# Altium schematic symbol library 81402A.SchLib: 33 symbols
Pins are listed as number, name and electrical type; pins without a type are passive.

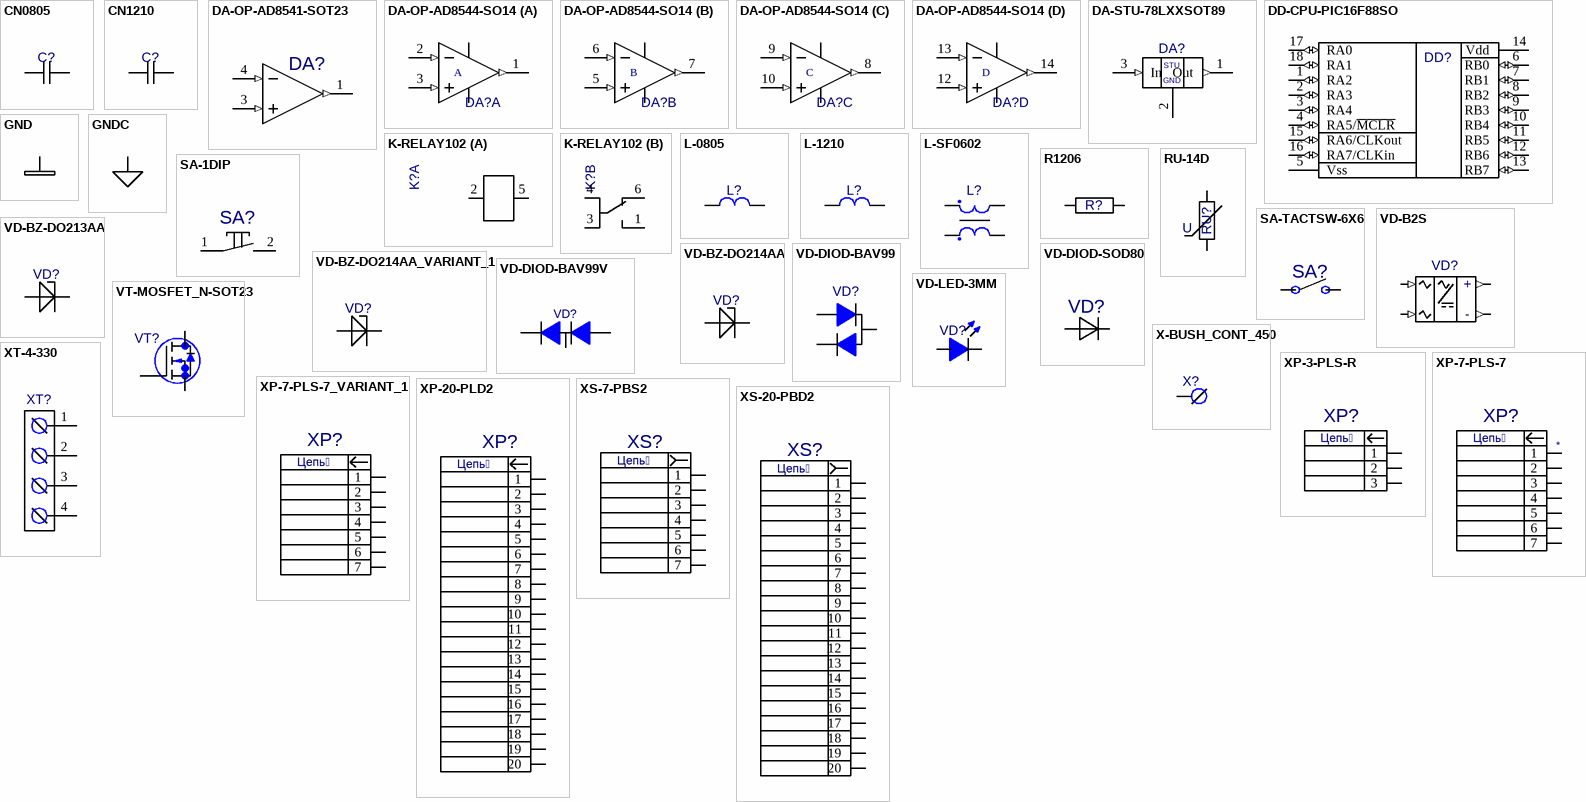
[diagram p0: symbols CN0805 to XT-4-330]

## CN0805
designator C?  (value not drawn)
Value: *
footprint 0805
pins: 1, 2

## CN1210
designator C?  (value not drawn)
Value: *
footprint 1210
pins: 1, 2

## DA-OP-AD8541-SOT23
designator DA?  (value not drawn)
Value: *
footprint SOT23-(5)
pins: 1 out (out), 2 V- (power) hidden, 3 +in (in), 4 -in (in), 5 V+ (power) hidden

## DA-OP-AD8544-SO14
designator DA?  (value not drawn)
Value: *
footprint SO-G14
pins on every part: 4 V+ (power) hidden, 11 V- (power) hidden
part A pins: 1 OUT (out), 2 IN- (in), 3 IN+ (in)
part B pins: 5 IN+ (in), 6 IN- (in), 7 OUT (out)
part C pins: 8 OUT (out), 9 IN- (in), 10 IN+ (in)
part D pins: 12 IN+ (in), 13 IN- (in), 14 OUT (out)
part A text: A
part B text: B
part C text: C
part D text: D

## DA-STU-78LXXSOT89
designator DA?  (value not drawn)
Value: *
footprint SOT89M
pins: 1 Out (out), 2 GND, 3 In (in), 4 GND
text: STU

## DD-CPU-PIC16F88SO
designator DD?  (value not drawn)
Value: *
footprint SO18W
pins: 1 RA2 (io), 2 RA3 (io), 3 RA4 (io), 4 RA5/~{MCLR} (io), 5 Vss (power), 6 RB0 (io), 7 RB1 (io), 8 RB2 (io), 9 RB3 (io), 10 RB4 (io), 11 RB5 (io), 12 RB6 (io), 13 RB7 (io), 14 Vdd (power), 15 RA6/CLKout (io), 16 RA7/CLKin (io), 17 RA0 (io), 18 RA1 (io)

## GND
designator PWR?  (value not drawn)
Value: *
pins: 1 GND (power)

## GNDC
designator PWR?  (value not drawn)
Value: *
pins: 1 GNDC (power)

## K-RELAY102
designator K?  (value not drawn)
Value: *
footprint RELAY102
part A pins: 2 1, 5 2
part B pins: 1, 3 2, 4 3, 6 4

## L-0805
designator L?  (value not drawn)
Value: *
footprint 0805
pins: 1, 2

## L-1210
designator L?  (value not drawn)
Value: *
footprint 1210
pins: 1, 2

## L-SF0602
designator L?  (value not drawn)
Value: *
footprint SF0602
pins: 1, 2, 3, 4

## R1206
designator R?  (value not drawn)
Value: *
footprint 1206
pins: 1, 2

## RU-14D
designator RU?  (value not drawn)
Value: *
footprint RU-14D
pins: 1, 2
text: U

## SA-1DIP
designator SA?  (value not drawn)
Value: *
footprint DIP2
pins: 1, 2

## SA-TACTSW-6X6
designator SA?  (value not drawn)
Value: *
footprint TS_6X6
pins: 1 2, 2 1, 3 hidden, 4 hidden

## VD-B2S
designator VD?  (value not drawn)
Value: *
footprint DIP_4_SMD_BXS
pins: 1 (in), 2 (in), 3 +V (out), 4 -V (out)
text: +; -

## VD-BZ-DO213AA
designator VD?  (value not drawn)
Value: *
footprint DO-213AA
pins: 1 A, 2 K

## VD-BZ-DO214AA
designator VD?  (value not drawn)
Value: *
footprint DO-214AA
pins: 1 A, 2 K

## VD-BZ-DO214AA_VARIANT_1
designator VD?, comment VD-BZ-DO214AA  (value not drawn)
VD-BZ-DO214AA_VARIANT_1; Value: *
footprint DO-214AA
pins: 1 A, 2 K

## VD-DIOD-BAV99
designator VD?  (value not drawn)
Value: *
footprint SOT23
pins: 1 A, 2 K, 3 K/A

## VD-DIOD-BAV99V
designator VD?  (value not drawn)
Value: *
footprint SOT23
pins: 1 A, 2 K, 3 K/A

## VD-DIOD-SOD80
designator VD?  (value not drawn)
Value: *
footprint SOD-80
pins: 1 A, 2 K

## VD-LED-3MM
designator VD?  (value not drawn)
Value: *
footprint LED300
pins: 1 A, 2 K

## VT-MOSFET_N-SOT23
designator VT?  (value not drawn)
Value: *
footprint SOT23
pins: 1 Gait, 2 Source, 3 drain

## X-BUSH_CONT_450
designator X?  (value not drawn)
Value: *
footprint BUSH_CONT_450
pins: 1

## XP-3-PLS-R
designator XP?  (value not drawn)
Value: *
footprint PLS-3R
pins: 1, 2, 3
text: Цепь

## XP-7-PLS-7
designator XP?  (value not drawn)
Value: *
footprint PLS2-7
pins: 1, 2, 3, 4, 5, 6, 7
text: Цепь

## XP-7-PLS-7_VARIANT_1
designator XP?, comment XP-7-PLS-7  (value not drawn)
XP-7-PLS-7_VARIANT_1; Value: *
footprint PLS2-7
pins: 1, 2, 3, 4, 5, 6, 7
text: Цепь

## XP-20-PLD2
designator XP?  (value not drawn)
Value: *
footprint PLD2-20
pins: 1, 2, 3, 4, 5, 6, 7, 8, 9, 10, 11, 12, 13, 14, 15, 16, 17, 18, 19, 20
text: Цепь

## XS-7-PBS2
designator XS?  (value not drawn)
Value: *
footprint PBS2-7
pins: 1, 2, 3, 4, 5, 6, 7
text: Цепь

## XS-20-PBD2
designator XS?  (value not drawn)
Value: *
footprint PBD2-20
pins: 1, 2, 3, 4, 5, 6, 7, 8, 9, 10, 11, 12, 13, 14, 15, 16, 17, 18, 19, 20
text: Цепь

## XT-4-330
designator XT?  (value not drawn)
Value: *
footprint XT-4-330
pins: 1 Contact1, 2 Contact2, 3 Contact3, 4 Contact4